# EAGLE library part SMS-202C (library SMS-202C)
LEADER TECH-FERRISHIELD - SMS-202C - EMI SHIELDING, 17.07 X 17.07 X 2.01MM Source: Datasheet <https://www.leadertechinc.com/assets/files/EngineeringDrawings/SMS-202.pdf>
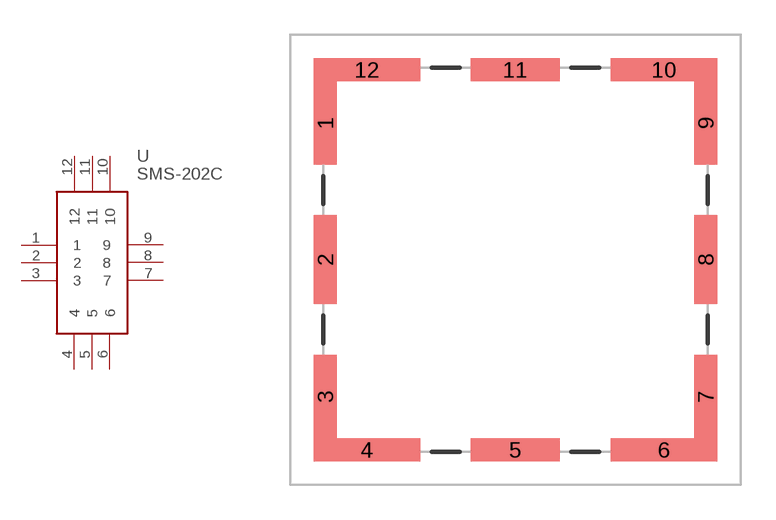
[diagram p0: symbol with the pads of SMS202F; footprint SMS202F]

Designator prefix U

## SMS-202C (Description: LEADER TECH-FERRISHIELD - SMS-202C - EMI SHIELDING, 17.07 X 17.07 X 2.01MM; Height: 3.61mm; Manufacturer_Name: Leader Tech Inc.; Manufacturer_Part_Number: SMS-202C; Mouser_Part_Number: 861-SMS-202C; Mouser_Price-Stock: https://www.mouser.co.uk/ProductDetail/LeaderTech/SMS-202C?qs=u16ybLDytRYoSSFRGBpM2A%3D%3D)  [SMS202F]
1  1
2  2
3  3
4  4
5  5
6  6
7  7
8  8
9  9
10  10
11  11
12  12

## Footprint SMS202F (pad centres in mm)
SMS-202F
smd 0.99 x 3.58: 1 -8.165,5.88; 3 -8.165,-5.88; 7 8.165,-5.88; 9 8.165,5.88
smd 0.99 x 3.81: 2 -8.165,0.01; 8 8.165,0.01
smd 4.57 x 0.99: 4 -6.375,-8.165; 6 6.375,-8.165; 10 6.375,8.165; 12 -6.375,8.165
smd 3.81 x 0.99: 5 -0.01,-8.165; 11 -0.01,8.165